# Altium footprint library 集成接线头.PcbLib: 105 footprints (part 3 of 7)
Each footprint in its own frame and in the unit in brackets; x right, y up, seen from the top. Pads: shape width x height; smd on the part's side, far side on the other; paste and mask are expansions set on the pad; w line width, h text height; cw(c..) or ccw(c..) is an arc to the next point about the centre after c.
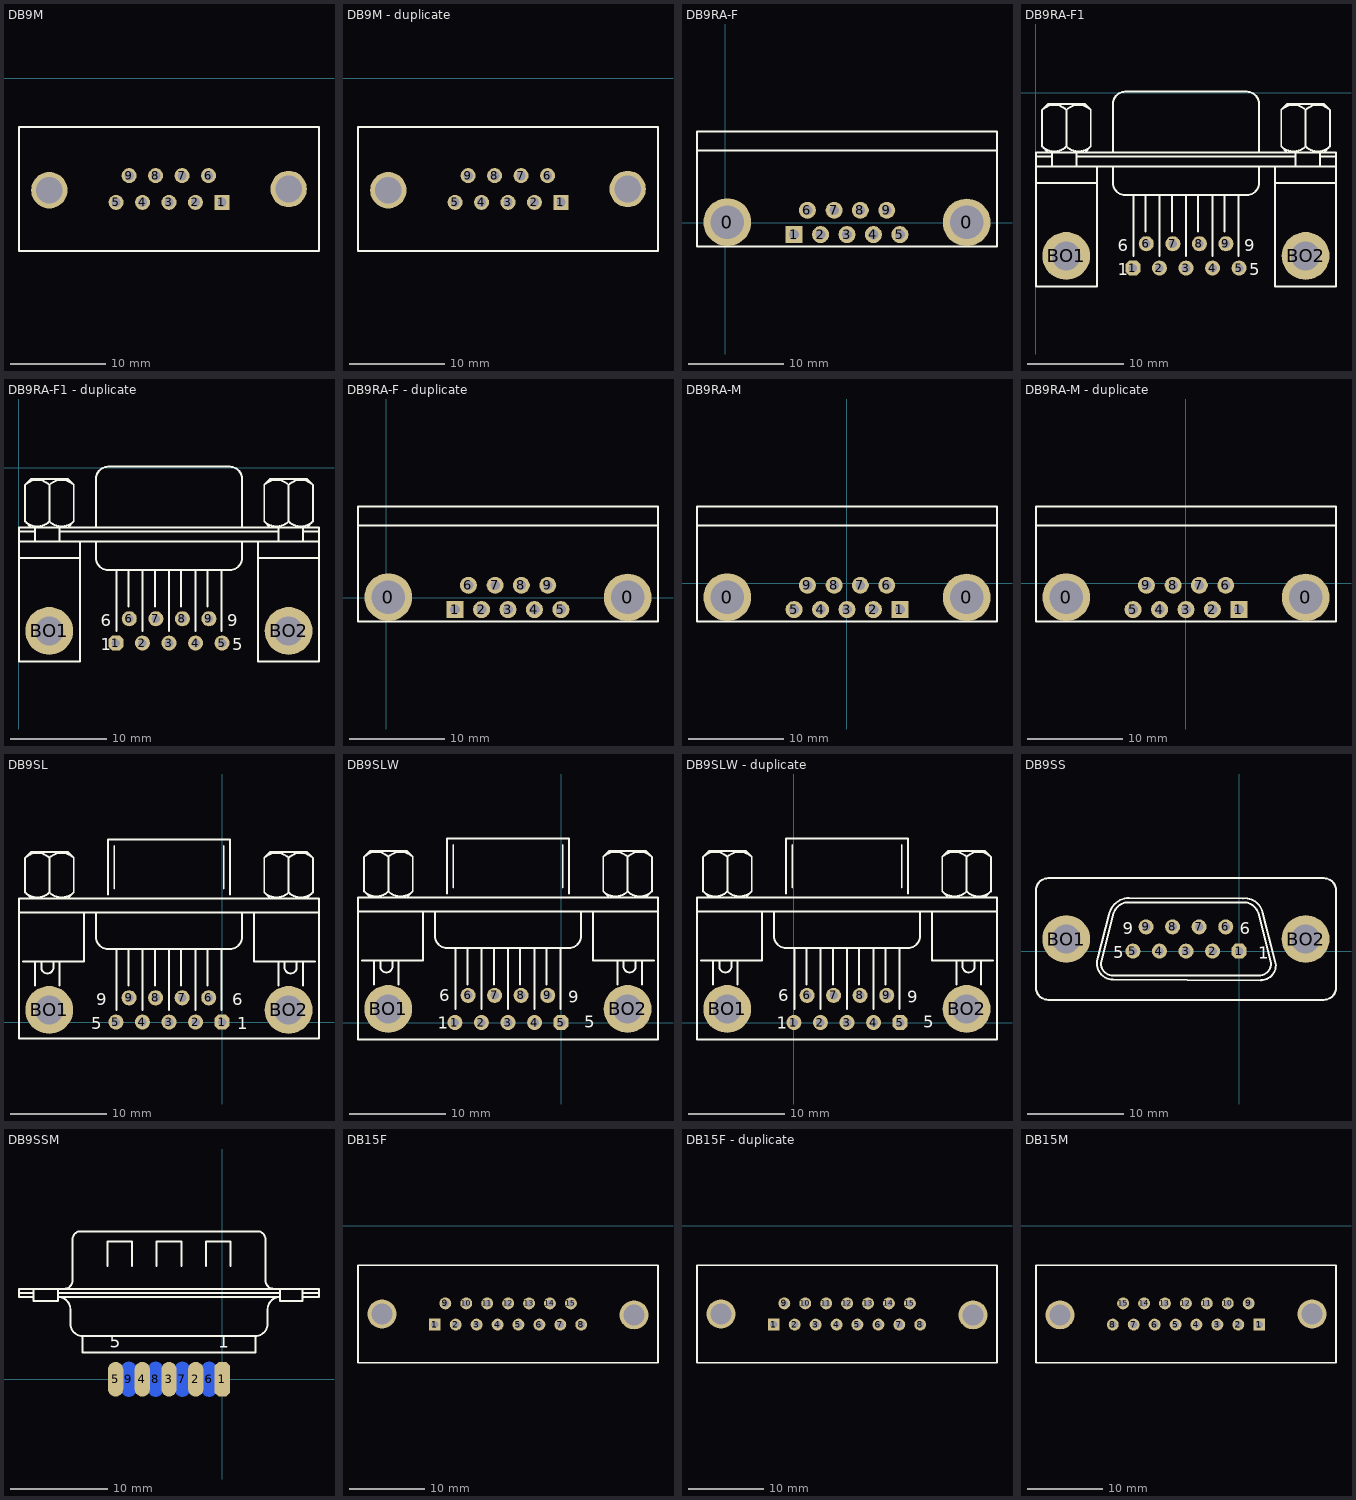
[diagram p2: the footprints below, top view; thin cyan lines are the x and y axes]

## DB9M [mil]
pads (11):
  rect 62x62 hole 38: 1(1038,-512)
  round 62 hole 38: 2(929,-512) 3(820,-512) 4(711,-512) 5(602,-512) 6(983,-402) 7(874,-402) 8(765,-402) 9(656,-402)
  round 150 hole 110: ""(327,-462) ""(1313,-457)
Top Overlay:
  lines w8: 202,-712 202,-202 1438,-202 1438,-712 202,-712

## DB9M - duplicate [mil]
pads (11):
  rect 62x62 hole 38: 1(1038,-512)
  round 62 hole 38: 2(929,-512) 3(820,-512) 4(711,-512) 5(602,-512) 6(983,-402) 7(874,-402) 8(765,-402) 9(656,-402)
  round 150 hole 110: ""(327,-462) ""(1313,-457)
Top Overlay:
  lines w8: 202,-712 202,-202 1438,-202 1438,-712 202,-712

## DB9RA-F [mil]
pads (11):
  round 196.85 hole 137.79: 0(8,2) 0(994,1)
  rect 70x70 hole 40: 1(283,-49)
  round 70 hole 40: 2(392,-49) 3(501,-49) 4(610,-49) 5(719,-49) 6(338,51) 7(448,51) 8(556,51) 9(665,51)
Top Overlay:
  lines w8: -117,297.26 1119,297.26 ; -117,-98.35 -117,376 1119,376 1119,-98.35 -117,-98.35

## DB9RA-F1 [mil]
pads (11):
  oct 62x62 hole 35: 1(400.26,-720.47)
  round 62 hole 35: 2(509.43,-720.47) 3(618.59,-720.47) 4(727.76,-720.47) 5(836.93,-720.47) 6(455.26,-620.47) 7(564.43,-620.47) 8(673.59,-620.47) 9(782.76,-620.47)
  round 196.67 hole 118.33: BO1(126.09,-670.47) BO2(1110.26,-670.47)
Top Overlay:
  lines w8: 1.93,-370.46 251.93,-370.46 ; 1.93,-303.8 1235.26,-303.8 ; 1.93,-262.13 68.59,-262.13 ; 26.84,-220.55 ccw(c76.93,-170.47) 127.01,-220.55 ; 26.84,-70.38 cw(c76.93,-120.47) 127.01,-70.38 ; 51.93,-245.47 26.93,-220.47 26.93,-70.47 51.93,-45.47 201.93,-45.47 226.93,-70.47 226.93,-220.47 201.93,-245.47 ; 68.59,-303.8 68.59,-245.47 ; 126.84,-220.55 ccw(c176.93,-170.47) 227.01,-220.55 ; 126.84,-70.38 cw(c176.93,-120.47) 227.01,-70.38 ; 126.93,-220.47 126.93,-70.47 ; 168.59,-303.8 168.59,-245.47 ; 168.59,-262.13 1068.59,-262.13 ; 251.93,-303.8 251.93,-795.47 1.93,-795.47 1.93,-245.47 1235.26,-245.47 1235.26,-795.47 985.26,-795.47 985.26,-303.8 ; 318.59,-303.8 318.59,-370.46 ccw(c368.59,-370.46) 368.59,-420.46 868.59,-420.46 ccw(c868.59,-370.46) 918.59,-370.46 918.59,-303.8 ; 318.59,-245.47 318.59,-45.47 cw(c368.59,-45.47) 368.59,4.53 868.59,4.54 cw(c868.59,-45.47) 918.59,-45.47 918.59,-245.47 ; 401.93,-670.47 401.93,-420.46 ; 451.93,-570.47 451.93,-420.46 ; 510.26,-670.47 510.26,-420.46 ; 560.26,-570.47 560.26,-420.46 ; 618.59,-670.47 618.59,-420.46 ; 668.59,-570.47 668.59,-420.46 ; 726.93,-670.47 726.93,-420.46 ; 776.93,-570.47 776.93,-420.46 ; 835.26,-670.47 835.26,-420.46 ; 985.26,-370.46 1235.26,-370.46 ; 1010.17,-220.55 ccw(c1060.26,-170.47) 1110.35,-220.55 ; 1010.17,-70.38 cw(c1060.26,-120.47) 1110.35,-70.38 ; 1035.26,-245.47 1010.26,-220.47 1010.26,-70.47 1035.26,-45.47 1185.26,-45.47 1210.26,-70.47 1210.26,-220.47 1185.26,-245.47 ; 1068.59,-303.8 1068.59,-245.47 ; 1110.17,-220.55 ccw(c1160.26,-170.47) 1210.35,-220.55 ; 1110.17,-70.38 cw(c1160.26,-120.47) 1210.35,-70.38 ; 1110.26,-220.47 1110.26,-70.47 ; 1168.59,-303.8 1168.59,-245.47 ; 1168.59,-262.13 1235.26,-262.13
  text "9" at 858.59,-650.47 h50
  text "5" at 878.59,-750.47 h50
  text "1" at 338.59,-750.47 h50
  text "6" at 338.59,-650.47 h50

## DB9RA-F1 - duplicate [mil]
pads (11):
  oct 62x62 hole 35: 1(400.26,-720.47)
  round 62 hole 35: 2(509.43,-720.47) 3(618.59,-720.47) 4(727.76,-720.47) 5(836.93,-720.47) 6(455.26,-620.47) 7(564.43,-620.47) 8(673.59,-620.47) 9(782.76,-620.47)
  round 196.67 hole 118.33: BO1(126.09,-670.47) BO2(1110.26,-670.47)
Top Overlay:
  lines w8: 1.93,-370.46 251.93,-370.46 ; 1.93,-303.8 1235.26,-303.8 ; 1.93,-262.13 68.59,-262.13 ; 26.84,-220.55 ccw(c76.93,-170.47) 127.01,-220.55 ; 26.84,-70.38 cw(c76.93,-120.47) 127.01,-70.38 ; 51.93,-245.47 26.93,-220.47 26.93,-70.47 51.93,-45.47 201.93,-45.47 226.93,-70.47 226.93,-220.47 201.93,-245.47 ; 68.59,-303.8 68.59,-245.47 ; 126.84,-220.55 ccw(c176.93,-170.47) 227.01,-220.55 ; 126.84,-70.38 cw(c176.93,-120.47) 227.01,-70.38 ; 126.93,-220.47 126.93,-70.47 ; 168.59,-303.8 168.59,-245.47 ; 168.59,-262.13 1068.59,-262.13 ; 251.93,-303.8 251.93,-795.47 1.93,-795.47 1.93,-245.47 1235.26,-245.47 1235.26,-795.47 985.26,-795.47 985.26,-303.8 ; 318.59,-303.8 318.59,-370.46 ccw(c368.59,-370.46) 368.59,-420.46 868.59,-420.46 ccw(c868.59,-370.46) 918.59,-370.46 918.59,-303.8 ; 318.59,-245.47 318.59,-45.47 cw(c368.59,-45.47) 368.59,4.53 868.59,4.54 cw(c868.59,-45.47) 918.59,-45.47 918.59,-245.47 ; 401.93,-670.47 401.93,-420.46 ; 451.93,-570.47 451.93,-420.46 ; 510.26,-670.47 510.26,-420.46 ; 560.26,-570.47 560.26,-420.46 ; 618.59,-670.47 618.59,-420.46 ; 668.59,-570.47 668.59,-420.46 ; 726.93,-670.47 726.93,-420.46 ; 776.93,-570.47 776.93,-420.46 ; 835.26,-670.47 835.26,-420.46 ; 985.26,-370.46 1235.26,-370.46 ; 1010.17,-220.55 ccw(c1060.26,-170.47) 1110.35,-220.55 ; 1010.17,-70.38 cw(c1060.26,-120.47) 1110.35,-70.38 ; 1035.26,-245.47 1010.26,-220.47 1010.26,-70.47 1035.26,-45.47 1185.26,-45.47 1210.26,-70.47 1210.26,-220.47 1185.26,-245.47 ; 1068.59,-303.8 1068.59,-245.47 ; 1110.17,-220.55 ccw(c1160.26,-170.47) 1210.35,-220.55 ; 1110.17,-70.38 cw(c1160.26,-120.47) 1210.35,-70.38 ; 1110.26,-220.47 1110.26,-70.47 ; 1168.59,-303.8 1168.59,-245.47 ; 1168.59,-262.13 1235.26,-262.13
  text "9" at 858.59,-650.47 h50
  text "5" at 878.59,-750.47 h50
  text "1" at 338.59,-750.47 h50
  text "6" at 338.59,-650.47 h50

## DB9RA-F - duplicate [mil]
pads (11):
  round 196.85 hole 137.79: 0(8,2) 0(994,1)
  rect 70x70 hole 40: 1(283,-49)
  round 70 hole 40: 2(392,-49) 3(501,-49) 4(610,-49) 5(719,-49) 6(338,51) 7(448,51) 8(556,51) 9(665,51)
Top Overlay:
  lines w8: -117,297.26 1119,297.26 ; -117,-98.35 -117,376 1119,376 1119,-98.35 -117,-98.35

## DB9RA-M [mil]
pads (11):
  round 196.85 hole 137.79: 0(-492,-58) 0(494,-59)
  rect 70x70 hole 40: 1(219,-109)
  round 70 hole 40: 2(110,-109) 3(1,-109) 4(-108,-109) 5(-217,-109) 6(165,-9) 7(56,-9) 8(-52,-9) 9(-162,-9)
Top Overlay:
  lines w8: -617,237.26 619,237.26 ; -617,-158.35 619,-158.35 619,316 -617,316 -617,-158.35

## DB9RA-M - duplicate [mil]
pads (11):
  round 196.85 hole 137.79: 0(-492,-58) 0(494,-59)
  rect 70x70 hole 40: 1(219,-109)
  round 70 hole 40: 2(110,-109) 3(1,-109) 4(-108,-109) 5(-217,-109) 6(165,-9) 7(56,-9) 8(-52,-9) 9(-162,-9)
Top Overlay:
  lines w8: -617,237.26 619,237.26 ; -617,-158.35 -617,316 619,316 619,-158.35 -617,-158.35

## DB9SL [mil]
pads (11):
  oct 62x62 hole 35: 1(0,0)
  round 62 hole 35: 2(-109.17,0) 3(-218.33,0) 4(-327.5,0) 5(-436.67,0) 6(-55,100) 7(-164.17,100) 8(-273.33,100) 9(-382.5,100)
  round 196.67 hole 118.33: BO1(-710.83,50) BO2(273.33,50)
Top Overlay:
  lines w8: -835,450 398.33,450 ; -818.33,250 -568.33,250 -568.33,450 ; -810.09,533.25 ccw(c-760,583.33) -709.91,533.25 ; -810.09,675.09 cw(c-760,625) -709.91,675.09 ; -785,508.33 -810,533.33 -810,675 -785,700 -635,700 -610,675 -610,533.33 -635,508.33 ; -768.33,150 -768.33,250 ; -743.33,250 -743.33,225 ccw(c-718.33,225) -693.33,225 -693.33,250 ; -710.09,533.25 ccw(c-660,583.33) -609.91,533.25 ; -710.09,675.09 cw(c-660,625) -609.91,675.09 ; -710,533.33 -710,675 ; -668.33,150 -668.33,250 ; -518.33,450 -518.33,350 ccw(c-468.33,350) -468.33,300 31.67,300 ccw(c31.67,350) 81.67,350 81.67,450 ; -468.33,525 -468.33,750 31.67,750 31.67,525 ; -443.33,550 -443.33,725 ; -435,50 -435,300 ; -385,150 -385,300 ; -326.67,50 -326.67,300 ; -276.67,150 -276.67,300 ; -218.33,50 -218.33,300 ; -168.33,150 -168.33,300 ; -110,50 -110,300 ; -60,150 -60,158.33 -60,300 ; -1.67,50 -1.67,300 ; 6.67,550 6.67,725 ; 131.67,450 131.67,250 381.67,250 ; 173.25,533.25 ccw(c223.33,583.33) 273.42,533.25 ; 173.25,675.09 cw(c223.33,625) 273.42,675.09 ; 198.33,508.33 173.33,533.33 173.33,675 198.33,700 348.33,700 373.33,675 373.33,533.33 348.33,508.33 ; 231.67,150 231.67,250 ; 256.67,250 256.67,225 ccw(c281.67,225) 306.67,225 306.67,250 ; 273.25,533.25 ccw(c323.33,583.33) 373.42,533.25 ; 273.25,675.09 cw(c323.33,625) 373.42,675.09 ; 273.33,533.33 273.33,675 ; 331.67,150 331.67,250 ; -835,-66.67 398.33,-66.67 398.33,508.33 -835,508.33 -835,-66.67
  text "6" at 41.67,70 h50
  text "1" at 61.67,-30 h50
  text "5" at -538.33,-30 h50
  text "9" at -518.33,70 h50

## DB9SLW [mil]
pads (11):
  round 62 hole 35: 1(-436.67,0) 2(-327.5,0) 3(-218.33,0) 4(-109.17,0) 6(-382.5,111.67) 7(-273.33,111.67) 8(-164.17,111.67) 9(-55,111.67)
  oct 62x62 hole 35: 5(0,0)
  round 196.67 hole 118.33: BO1(-710.83,55.83) BO2(273.33,55.83)
Top Overlay:
  lines w8: -835,455.83 398.33,455.83 ; -818.33,255.83 -568.33,255.83 -568.33,455.83 ; -810.09,539.08 ccw(c-760,589.17) -709.91,539.08 ; -810.09,680.92 cw(c-760,630.83) -709.91,680.92 ; -785,514.17 -810,539.17 -810,680.83 -785,705.83 -635,705.83 -610,680.83 -610,539.17 -635,514.17 ; -768.33,155.83 -768.33,255.83 ; -743.33,255.83 -743.33,230.83 ccw(c-718.33,230.83) -693.33,230.83 -693.33,255.83 ; -710.09,539.08 ccw(c-660,589.17) -609.91,539.08 ; -710.09,680.92 cw(c-660,630.83) -609.91,680.92 ; -710,539.17 -710,680.83 ; -668.33,155.83 -668.33,255.83 ; -518.33,455.83 -518.33,355.83 ccw(c-468.33,355.83) -468.33,305.83 31.67,305.83 ccw(c31.67,355.83) 81.67,355.83 81.67,455.83 ; -468.33,530.83 -468.33,755.83 31.67,755.83 31.67,530.83 ; -443.33,555.83 -443.33,730.83 ; -435,55.83 -435,305.83 ; -385,155.83 -385,305.83 ; -326.67,55.83 -326.67,305.83 ; -276.67,155.83 -276.67,305.83 ; -218.33,55.83 -218.33,305.83 ; -168.33,155.83 -168.33,305.83 ; -110,55.83 -110,305.83 ; -60,155.83 -60,305.83 ; -1.67,55.83 -1.67,305.83 ; 6.67,555.83 6.67,730.83 ; 131.67,455.83 131.67,255.83 381.67,255.83 ; 173.25,539.08 ccw(c223.33,589.17) 273.42,539.08 ; 173.25,680.92 cw(c223.33,630.83) 273.42,680.92 ; 198.33,514.17 173.33,539.17 173.33,680.83 198.33,705.83 348.33,705.83 373.33,680.83 373.33,539.17 348.33,514.17 ; 231.67,155.83 231.67,255.83 ; 256.67,255.83 256.67,230.83 ccw(c281.67,230.83) 306.67,230.83 306.67,255.83 ; 273.25,539.08 ccw(c323.33,589.17) 373.42,539.08 ; 273.25,680.92 cw(c323.33,630.83) 373.42,680.92 ; 273.33,539.17 273.33,680.83 ; 331.67,155.83 331.67,255.83 ; -835,-69.17 398.33,-69.17 398.33,514.17 -835,514.17 -835,-69.17
  text "6" at -500,87 h50
  text "1" at -508,-25 h50
  text "5" at 96,-22 h50
  text "9" at 29,82 h50

## DB9SLW - duplicate [mil]
pads (11):
  round 62 hole 35: 1(0,0) 2(109.17,0) 3(218.33,0) 4(327.5,0) 6(54.17,111.67) 7(163.33,111.67) 8(272.5,111.67) 9(381.67,111.67)
  oct 62x62 hole 35: 5(436.67,0)
  round 196.67 hole 118.33: BO1(-274.17,55.83) BO2(710,55.83)
Top Overlay:
  lines w8: -398.33,455.83 835,455.83 ; -381.67,255.83 -131.67,255.83 -131.67,455.83 ; -373.42,539.08 ccw(c-323.33,589.17) -273.25,539.08 ; -373.42,680.92 cw(c-323.33,630.83) -273.25,680.92 ; -348.33,514.17 -373.33,539.17 -373.33,680.83 -348.33,705.83 -198.33,705.83 -173.33,680.83 -173.33,539.17 -198.33,514.17 ; -331.67,155.83 -331.67,255.83 ; -306.67,255.83 -306.67,230.83 ccw(c-281.67,230.83) -256.67,230.83 -256.67,255.83 ; -273.42,539.08 ccw(c-223.33,589.17) -173.25,539.08 ; -273.42,680.92 cw(c-223.33,630.83) -173.25,680.92 ; -273.33,539.17 -273.33,680.83 ; -231.67,155.83 -231.67,255.83 ; -81.67,455.83 -81.67,355.83 ccw(c-31.67,355.83) -31.67,305.83 468.33,305.83 ccw(c468.33,355.83) 518.33,355.83 518.33,455.83 ; -31.67,530.83 -31.67,755.83 468.33,755.83 468.33,530.83 ; -6.67,555.83 -6.67,730.83 ; 1.67,55.83 1.67,305.83 ; 51.67,155.83 51.67,305.83 ; 110,55.83 110,305.83 ; 160,155.83 160,305.83 ; 218.33,55.83 218.33,305.83 ; 268.33,155.83 268.33,305.83 ; 326.67,55.83 326.67,305.83 ; 376.67,155.83 376.67,305.83 ; 435,55.83 435,305.83 ; 443.33,555.83 443.33,730.83 ; 568.33,455.83 568.33,255.83 818.33,255.83 ; 609.91,539.08 ccw(c660,589.17) 710.09,539.08 ; 609.91,680.92 cw(c660,630.83) 710.09,680.92 ; 635,514.17 610,539.17 610,680.83 635,705.83 785,705.83 810,680.83 810,539.17 785,514.17 ; 668.33,155.83 668.33,255.83 ; 693.33,255.83 693.33,230.83 ccw(c718.33,230.83) 743.33,230.83 743.33,255.83 ; 709.91,539.08 ccw(c760,589.17) 810.09,539.08 ; 709.91,680.92 cw(c760,630.83) 810.09,680.92 ; 710,539.17 710,680.83 ; 768.33,155.83 768.33,255.83 ; -398.33,-69.17 -398.33,514.17 835,514.17 835,-69.17 -398.33,-69.17
  text "9" at 465.67,82 h50
  text "5" at 532.67,-22 h50
  text "1" at -71.33,-25 h50
  text "6" at -63.33,87 h50

## DB9SS [mil]
pads (11):
  oct 62x62 hole 35: 1(0,0)
  round 62 hole 35: 2(-109.17,0) 3(-218.33,0) 4(-327.5,0) 5(-436.67,0) 6(-55,100) 7(-164.17,100) 8(-273.33,100) 9(-382.5,100)
  round 196.67 hole 118.33: BO1(-710.83,50) BO2(273.33,50)
Top Overlay:
  lines w8: -580,-23.33 -535,150 ; -579.7,-23.95 ccw(c-518.33,-50) -518.33,-116.67 90,-120 ; -535.1,149.55 cw(c-451.67,133.33) -451.67,218.33 15,216.67 ; -518.33,150 -568.33,-50 ccw(c-518.33,-50) -518.33,-100 81.67,-100 ccw(c81.67,-50) 131.67,-50 81.67,150 ; -517.97,149.86 cw(c-451.67,133.33) -468.2,199.64 ; -468.33,200 31.67,200 ; 15.41,217.08 cw(c23.33,141.67) 97.22,158.72 ; 31.53,199.64 cw(c15,133.33) 81.3,149.86 ; 90,-119.17 ccw(c90,-58.33) 148.48,-41.57 ; 96.67,158.33 148.33,-41.67 ; -835,-150 ccw(c-785,-150) -785,-200 348.33,-200 ccw(c348.33,-150) 398.33,-150 398.33,250 ccw(c348.33,250) 348.33,300 -785,300 ccw(c-785,250) -835,250 -835,-150
  text "6" at 1.67,70 h50
  text "1" at 78.27,-31.3 h50
  text "5" at -518.33,-30 h50
  text "9" at -478.33,70 h50

## DB9SSM [mil]
pads (9):
  oct 62.5x141.67 smd: 1(0,0)
  oval 62.5x141.67 smd: 2(-108.33,0) 3(-216.67,0) 4(-325,0) 5(-433.33,0)
  oval 62.5x141.67 smd far side: 6(-54.17,0) 7(-162.5,0) 8(-270.83,0) 9(-379.17,0)
Top Overlay:
  lines w8: -825,350 -766.67,350 ; -766.67,333.33 -825,333.33 -825,366.67 391.67,366.67 391.67,333.33 325,333.33 ; -766.67,366.67 -766.67,316.67 -666.67,316.67 -666.67,366.67 ; -666.67,350 233.33,350 ; -641.67,366.67 ccw(c-641.67,400) -608.33,400 -608.33,566.67 cw(c-575,566.67) -575,600 141.67,600 cw(c141.67,566.67) 175,566.67 175,400 ccw(c208.33,400) 208.33,366.67 ; -466.67,458.33 -466.67,558.33 -366.67,558.33 -366.67,458.33 ; -266.67,458.33 -266.67,558.33 -166.67,558.33 -166.67,458.33 ; -66.67,458.33 -66.67,558.33 33.33,558.33 33.33,458.33 ; 233.33,366.67 233.33,316.67 325,316.67 325,366.67 ; 325,350 391.67,350 ; -566.67,175 cw(c-566.67,225) -616.67,225 -616.67,283.33 ccw(c-666.67,283.33) -666.67,333.33 233.33,333.33 ccw(c233.33,283.33) 183.33,283.33 183.33,225 cw(c133.33,225) 133.33,175 ; -566.67,175 -566.67,108.33 133.33,108.33 133.33,175 ; -566.67,175 133.33,175
  text "5" at -456.67,128.33 h50
  text "1" at -16.67,128.33 h50

## DB15F [mil]
pads (17):
  rect 62x62 hole 38: 1(607,-515)
  round 62 hole 38: 2(716,-515) 3(825,-515) 4(934,-515) 5(1043,-515) 6(1152,-515) 7(1261,-515) 8(1370,-515) 9(662,-405) 10(771,-405) 11(880,-405) 12(989,-405) 13(1098,-405) 14(1207,-405) 15(1316,-405)
  round 150 hole 110: ""(332,-460) ""(1645,-465)
Top Overlay:
  lines w8: 207,-715 1770,-715 1770,-205 207,-205 207,-715

## DB15F - duplicate [mil]
pads (17):
  rect 62x62 hole 38: 1(607,-515)
  round 62 hole 38: 2(716,-515) 3(825,-515) 4(934,-515) 5(1043,-515) 6(1152,-515) 7(1261,-515) 8(1370,-515) 9(662,-405) 10(771,-405) 11(880,-405) 12(989,-405) 13(1098,-405) 14(1207,-405) 15(1316,-405)
  round 150 hole 110: ""(332,-460) ""(1645,-465)
Top Overlay:
  lines w8: 207,-715 1770,-715 1770,-205 207,-205 207,-715

## DB15M [mil]
pads (17):
  rect 62x62 hole 38: 1(1369,-516)
  round 62 hole 38: 2(1260,-516) 3(1151,-516) 4(1042,-516) 5(933,-516) 6(824,-516) 7(715,-516) 8(606,-516) 9(1314,-406) 10(1205,-406) 11(1096,-406) 12(987,-406) 13(878,-406) 14(769,-406) 15(660,-406)
  round 150 hole 110: ""(331,-466) ""(1644,-461)
Top Overlay:
  lines w8: 206,-716 206,-206 1769,-206 1769,-716 206,-716